# Altium footprint library CD40109B-Q1_NS_16.PcbLib: 3 footprints
Each footprint in its own frame and in the unit in brackets; x right, y up, seen from the top. Pads: shape width x height; smd on the part's side, far side on the other; paste and mask are expansions set on the pad; w line width, h text height; cw(c..) or ccw(c..) is an arc to the next point about the centre after c.
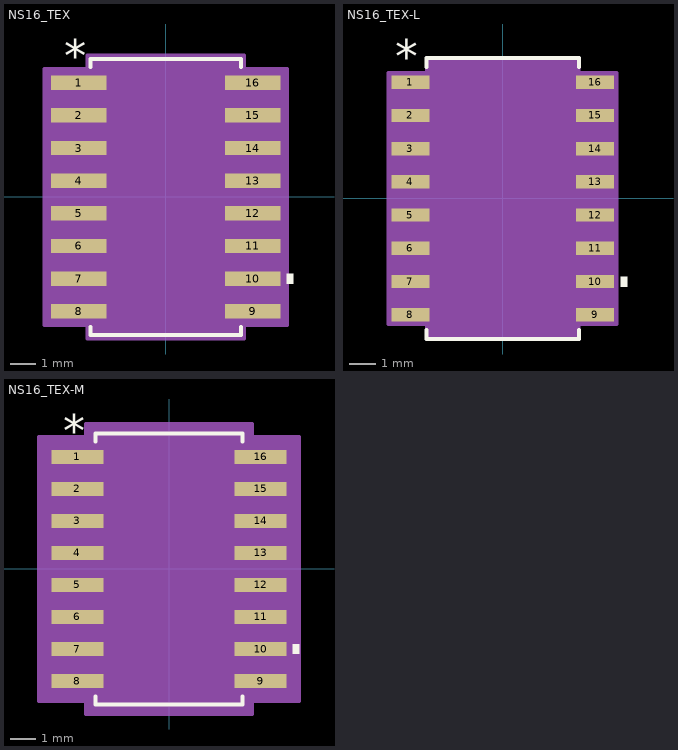
[diagram p0: the footprints below, top view; thin cyan lines are the x and y axes]

## NS16_TEX [mil]
pads (16):
  rect 85x22 smd paste-42.5 mask-42.5: 1(-133,175) 2(-133,125) 3(-133,75) 4(-133,25) 5(-133,-25) 6(-133,-75) 7(-133,-125) 8(-133,-175) 9(133,-175) 10(133,-125) 11(133,-75) 12(133,-25) 13(133,25) 14(133,75) 15(133,125) 16(133,175)
Top Overlay:
  region: 185.5,-117.5 195.5,-117.5 195.5,-132.5 185.5,-132.5
  lines w6: -115,-199.1 -115,-211.5 115,-211.5 115,-199.1 ; -115,199.1 -115,211.5 115,211.5 115,199.1
  text "*" at -155.5,192 h50
Mechanical 13:
  lines w0: -12,206.5 ccw(c0,206.5) 12,206.5
  lines w1: -161.5,-185 -161.5,-165 -110,-165 -110,-185 -161.5,-185 ; -161.5,-135 -161.5,-115 -110,-115 -110,-135 -161.5,-135 ; -161.5,-85 -161.5,-65 -110,-65 -110,-85 -161.5,-85 ; -161.5,-35 -161.5,-15 -110,-15 -110,-35 -161.5,-35 ; -161.5,15 -161.5,35 -110,35 -110,15 -161.5,15 ; -161.5,65 -161.5,85 -110,85 -110,65 -161.5,65 ; -161.5,115 -161.5,135 -110,135 -110,115 -161.5,115 ; -161.5,165 -161.5,185 -110,185 -110,165 -161.5,165 ; -110,-206.5 110,-206.5 110,206.5 -110,206.5 -110,-206.5 ; 110,-185 110,-165 161.5,-165 161.5,-185 110,-185 ; 110,-135 110,-115 161.5,-115 161.5,-135 110,-135 ; 110,-85 110,-65 161.5,-65 161.5,-85 110,-85 ; 110,-35 110,-15 161.5,-15 161.5,-35 110,-35 ; 110,15 110,35 161.5,35 161.5,15 110,15 ; 110,65 110,85 161.5,85 161.5,65 110,65 ; 110,115 110,135 161.5,135 161.5,115 110,115 ; 110,165 110,185 161.5,185 161.5,165 110,165
  text "*" at -107.5,153.5 h50
Mechanical 15:
  region: -120,-196 -185.5,-196 -185.5,196 -120,196 -120,216.5 120,216.5 120,196 185.5,196 185.5,-196 120,-196 120,-216.5 -120,-216.5
  lines w6: -185.5,-196 -185.5,196 -120,196 -120,216.5 120,216.5 120,196 185.5,196 185.5,-196 120,-196 120,-216.5 -120,-216.5 -120,-196 -185.5,-196
3D body "NS16_TEX.step": height 79.09, standoff 0, extent -161.5,-206.5 161.5,206.5

## NS16_TEX-L [mil]
pads (16):
  rect 57x20 smd paste+0 mask+0: 1(-139,175) 2(-139,125) 3(-139,75) 4(-139,25) 5(-139,-25) 6(-139,-75) 7(-139,-125) 8(-139,-175) 9(139,-175) 10(139,-125) 11(139,-75) 12(139,-25) 13(139,25) 14(139,75) 15(139,125) 16(139,175)
Top Overlay:
  region: 177.5,-117.5 187.5,-117.5 187.5,-132.5 177.5,-132.5
  lines w6: -115,-198.1 -115,-211.5 115,-211.5 115,-198.1 ; -115,198.1 -115,211.5 115,211.5 115,198.1
  text "*" at -161.5,190 h50
Mechanical 13:
  lines w0: -12,206.5 ccw(c0,206.5) 12,206.5
  lines w1: -161.5,-185 -161.5,-165 -110,-165 -110,-185 -161.5,-185 ; -161.5,-135 -161.5,-115 -110,-115 -110,-135 -161.5,-135 ; -161.5,-85 -161.5,-65 -110,-65 -110,-85 -161.5,-85 ; -161.5,-35 -161.5,-15 -110,-15 -110,-35 -161.5,-35 ; -161.5,15 -161.5,35 -110,35 -110,15 -161.5,15 ; -161.5,65 -161.5,85 -110,85 -110,65 -161.5,65 ; -161.5,115 -161.5,135 -110,135 -110,115 -161.5,115 ; -161.5,165 -161.5,185 -110,185 -110,165 -161.5,165 ; -110,-206.5 110,-206.5 110,206.5 -110,206.5 -110,-206.5 ; 110,-185 110,-165 161.5,-165 161.5,-185 110,-185 ; 110,-135 110,-115 161.5,-115 161.5,-135 110,-135 ; 110,-85 110,-65 161.5,-65 161.5,-85 110,-85 ; 110,-35 110,-15 161.5,-15 161.5,-35 110,-35 ; 110,15 110,35 161.5,35 161.5,15 110,15 ; 110,65 110,85 161.5,85 161.5,65 110,65 ; 110,115 110,135 161.5,135 161.5,115 110,115 ; 110,165 110,185 161.5,185 161.5,165 110,165
  text "*" at -107.5,153.5 h50
Mechanical 15:
  region: -114,-189 -171.5,-189 -171.5,189 -114,189 -114,210.5 114,210.5 114,189 171.5,189 171.5,-189 114,-189 114,-210.5 -114,-210.5
  lines w6: -171.5,-189 -171.5,189 -114,189 -114,210.5 114,210.5 114,189 171.5,189 171.5,-189 114,-189 114,-210.5 -114,-210.5 -114,-189 -171.5,-189
3D body "NS16_TEX.step": height 79.09, standoff 0, extent -161.5,-206.5 161.5,206.5

## NS16_TEX-M [mil]
pads (16):
  rect 81x22 smd paste+0 mask+0: 1(-143,175) 2(-143,125) 3(-143,75) 4(-143,25) 5(-143,-25) 6(-143,-75) 7(-143,-125) 8(-143,-175) 9(143,-175) 10(143,-125) 11(143,-75) 12(143,-25) 13(143,25) 14(143,75) 15(143,125) 16(143,175)
Top Overlay:
  region: 193.5,-117.5 203.5,-117.5 203.5,-132.5 193.5,-132.5
  lines w6: -115,-199.1 -115,-211.5 115,-211.5 115,-199.1 ; -115,199.1 -115,211.5 115,211.5 115,199.1
  text "*" at -165.5,192 h50
Mechanical 13:
  lines w0: -12,206.5 ccw(c0,206.5) 12,206.5
  lines w1: -161.5,-185 -161.5,-165 -110,-165 -110,-185 -161.5,-185 ; -161.5,-135 -161.5,-115 -110,-115 -110,-135 -161.5,-135 ; -161.5,-85 -161.5,-65 -110,-65 -110,-85 -161.5,-85 ; -161.5,-35 -161.5,-15 -110,-15 -110,-35 -161.5,-35 ; -161.5,15 -161.5,35 -110,35 -110,15 -161.5,15 ; -161.5,65 -161.5,85 -110,85 -110,65 -161.5,65 ; -161.5,115 -161.5,135 -110,135 -110,115 -161.5,115 ; -161.5,165 -161.5,185 -110,185 -110,165 -161.5,165 ; -110,-206.5 110,-206.5 110,206.5 -110,206.5 -110,-206.5 ; 110,-185 110,-165 161.5,-165 161.5,-185 110,-185 ; 110,-135 110,-115 161.5,-115 161.5,-135 110,-135 ; 110,-85 110,-65 161.5,-65 161.5,-85 110,-85 ; 110,-35 110,-15 161.5,-15 161.5,-35 110,-35 ; 110,15 110,35 161.5,35 161.5,15 110,15 ; 110,65 110,85 161.5,85 161.5,65 110,65 ; 110,115 110,135 161.5,135 161.5,115 110,115 ; 110,165 110,185 161.5,185 161.5,165 110,165
  text "*" at -107.5,153.5 h50
Mechanical 15:
  region: -130,-206 -203.5,-206 -203.5,206 -130,206 -130,226.5 130,226.5 130,206 203.5,206 203.5,-206 130,-206 130,-226.5 -130,-226.5
  lines w6: -203.5,-206 -203.5,206 -130,206 -130,226.5 130,226.5 130,206 203.5,206 203.5,-206 130,-206 130,-226.5 -130,-226.5 -130,-206 -203.5,-206
3D body "NS16_TEX.step": height 79.09, standoff 0, extent -161.5,-206.5 161.5,206.5